# EAGLE library part 10118193-0001LF (library tesseract)
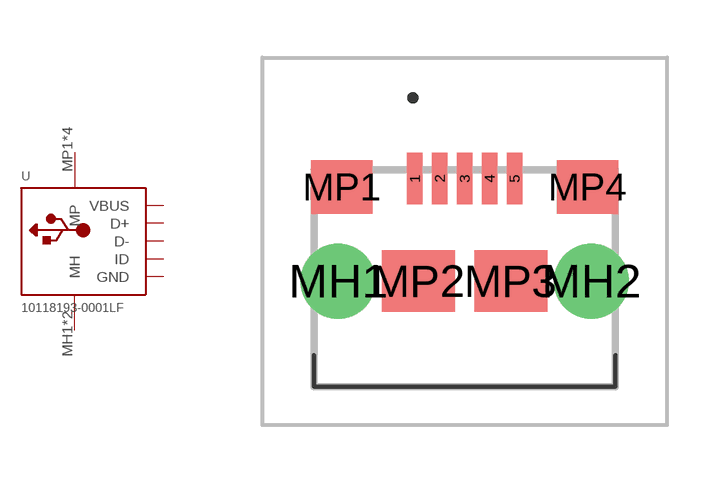
[diagram p2: symbol with the pads of 101181930001LF; footprint 101181930001LF]

Designator prefix U

## 10118193-0001LF  [101181930001LF]
1  VBUS  pwr
2  D+
3  D-
4  ID
5  GND  pwr
MH1  MH  pas
MH2  MH  pas
MP1  MP  pas
MP2  MP  pas
MP3  MP  pas
MP4  MP  pas

## Footprint 101181930001LF (pad centres in mm)
10118193-0001LF-1
smd 0.4 x 1.35: 1 -1.3,2.6; 2 -0.65,2.6; 3 0,2.6; 4 0.65,2.6; 5 1.3,2.6
drill 1.3 pad 1.95: MH1 -3.3,-0.075; MH2 3.3,-0.075
smd 1.6 x 1.4: MP1 -3.2,2.375; MP4 3.2,2.375
smd 1.9 x 1.6: MP2 -1.2,-0.075; MP3 1.2,-0.075